# Altium schematic symbol library VoltageManagementComponents.SchLib: 2 symbols
Pins are listed as number, name and electrical type; pins without a type are passive.

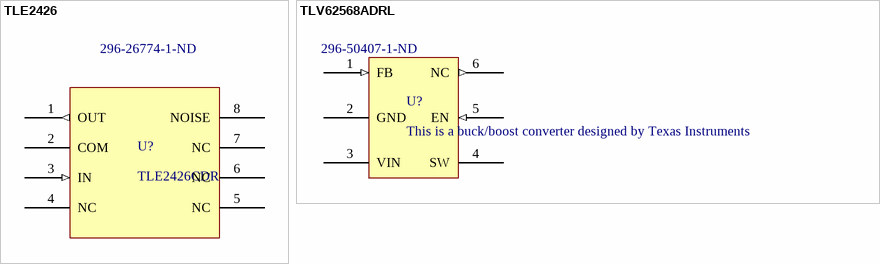
[diagram p0: symbols TLE2426 to TLV62568ADRL]

## TLE2426
designator U?, comment TLE2426CDR  Supplier Part Number 1: 296-26774-1-ND
Rail Splitter IC; Manufacturer: Texas Instruments; Description: TEXAS INSTRUMENTS         TLE2426CDR             IC, PRECISION VIRTUAL GROUND, 8-SOIC; Max Input Voltage: 40V; Output Voltage: 20V; Max Output Current: 20mA; Min Output Voltage: 2V; Temperature Coefficient: 35ppm/°C; Reference Type: Adjustable,Ground Reference (Virtual); Tolerance: 1%; Operating Supply Current: 400uA; Output Type: Adjustable; Supplier 1: Digi-Key; Manufacturer Part Number: TLE2426CDR; RoHS: Yes; Stock 1: 17506; Pricing 1: 1 = 2.14000, 10 = 1.91900, 100 = 1.54230, 500 = 1.26716, 1000 = 1.04993 (USD); Mount: Surface Mount; Case/Package: SOIC; Number of Pins: 8; Weight: 0.002677oz; Min Operating Temperature: -55°C; Max Operating Temperature: 125°C; Packaging: Tape and Reel; Package Quantity: 1; Max Output Voltage: 20V; Output Current: 20mA; Reference Voltage: 20V; Length: 4.9mm; Height: 1.58mm; Width: 3.91mm; Radiation Hardening: No; Lead Free: Lead Free; REACH SVHC: No SVHC; ComponentLink1URL: http://www.ti.com/lit/ds/symlink/tle2426.pdf?src-supplier=Digi-Key; ComponentLink1Description: http://www.ti.com/lit/ds/symlink/tle2426.pdf?src-supplier=Digi-Key; ComponentLink2URL: http://www.ti.com/general/docs/lit/getliterature.tsp?genericPartNumber=TLE2426&&fileType=pdf&src-supplier=Element14; ComponentLink2Description: http://www.ti.com/general/docs/lit/getliterature.tsp?genericPartNumber=TLE2426&&fileType=pdf&src-supplier=Element14; ComponentLink3URL: http://www.ti.com/lit/ds/slos098d/slos098d.pdf?src-supplier=Avnet+Europe; ComponentLink3Description: http://www.ti.com/lit/ds/slos098d/slos098d.pdf?src-supplier=Avnet+Europe; ComponentLink4URL: http://www.farnell.com/datasheets/1362010.pdf?src-supplier=Farnell; ComponentLink4Description: http://www.farnell.com/datasheets/1362010.pdf?src-supplier=Farnell; ComponentLink5URL: http://www.ti.com/general/docs/lit/getliterature.tsp?genericPartNumber=TLE2426&&fileType=pdf&src-supplier=Avnet; ComponentLink5Description: http://www.ti.com/general/docs/lit/getliterature.tsp?genericPartNumber=TLE2426&&fileType=pdf&src-supplier=Avnet
pins: 1 OUT (out), 2 COM (power), 3 IN (in), 4 NC, 5 NC, 6 NC, 7 NC, 8 NOISE

## TLV62568ADRL
designator U?, comment This is a buck/boost converter designed by Texas Instruments  Supplier Part Number 1: 296-50407-1-ND
Manufacturer Part Number: TLV62568ADRLR; Supplier 1: Digi-Key; Manufacturer: Texas Instruments; Stock 1: 2339; Pricing 1: 1 = 1.14000, 10 = 1.01500, 100 = 0.79120, 500 = 0.65364, 1000 = 0.51603 (USD)
footprint SOT50P160X60-6N (SOT23, 6-Leads, Body 1.60x1.60mm, Pitch 0.50mm, IPC Medium Density)
pins: 1 FB (in), 2 GND (power), 3 VIN (power), 4 SW (power), 5 EN (in), 6 NC (out)